# Altium integrated library Linear Technology Power Management LDO Linear Regulators.IntLib: 2339 symbols (part 46 of 131)
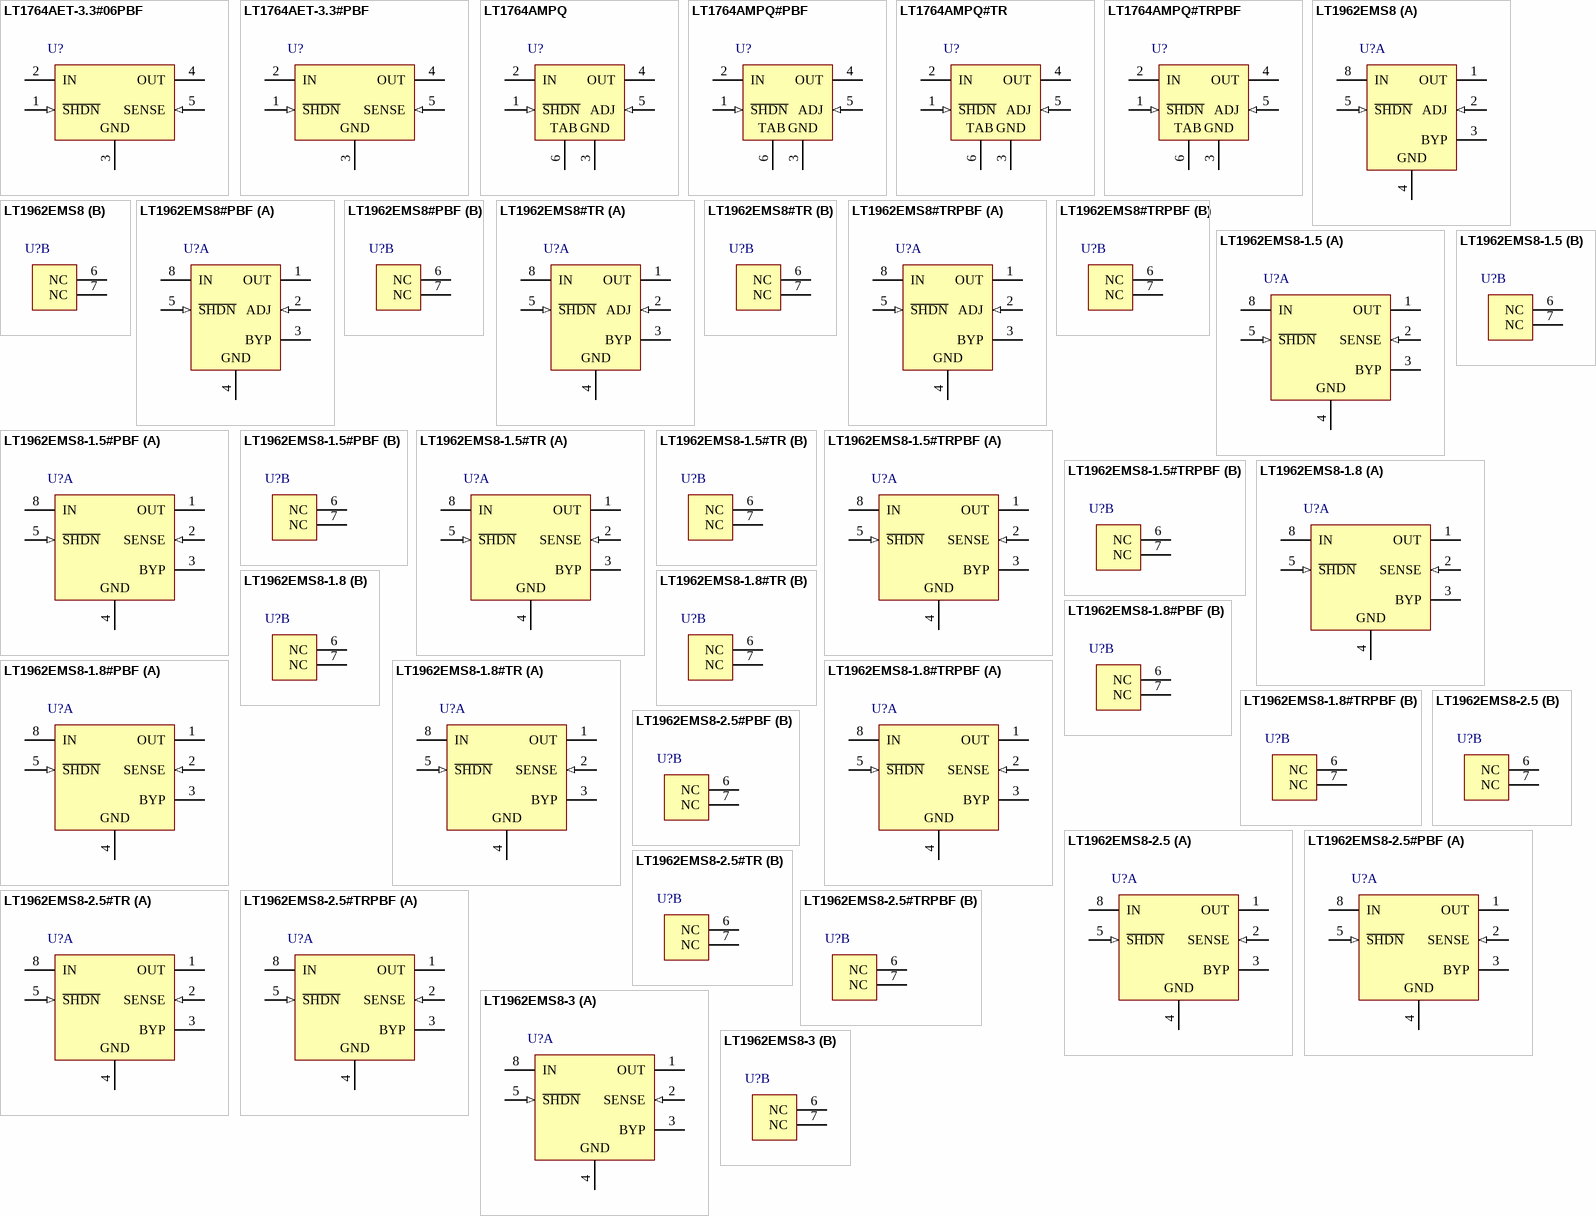
[diagram p114: symbols LT1764AET-3.3#06PBF to LT1962EMS8-3]

## LT1764AMPQ
designator U?
3 A, Fast Transient Response, Low Noise, LDO Regulator, 2.7 to 20 V Vin, Adjustable Vout, 5-pin DPAK (Q-5), -55 to 125 degC; Manufacturer: Linear Technology; PartNumber: LT1764AMPQ; Discrete Pass Element: no; Dropout Voltage(V): 0.34; Iout(mA): 3000; Isupply(mA): 1; Noise(uV): 40; Output Voltage: Adj; PSRR(dB): 63; Shutdown Current(uA): 0.01; Vin Max(V): 20; Vin Min(V): 2.7; Vout Min(V): 1.21; DatasheetVersion: Rev. B; PackageVersion: Rev. F, 09/2011; PackageReference: Q-5; PackageDescription: 5-Pin Plastic DD Pak, Body 10.2235 x 8.89 mm, Pitch 1.702 mm; Number of Outputs: 1; RoHS: FALSE; Vout Max(V): 20; Mounting Technology: Surface Mount; ComponentLink1Description: Manufacturer URL; ComponentLink1URL: http://www.linear.com/; ComponentLink2Description: Datasheet; ComponentLink2URL: http://cds.linear.com/docs/en/datasheet/1764afb.pdf; ComponentLink3Description: Package Specification; ComponentLink3URL: http://cds.linear.com/docs/en/packaging/Q%20DD5%2005-08-1461%20Rev%20F.pdf
footprint LT-Q-5_N (DPAK, 5-Leads, Body 10.22x8.89mm, Pitch 1.702mm, IPC Medium Density)
footprint LT-Q-5_L (DPAK, 5-Leads, Body 10.22x8.89mm, Pitch 1.702mm, IPC High Density)
footprint LT-Q-5_M (DPAK, 5-Leads, Body 10.22x8.89mm, Pitch 1.702mm, IPC Low Density)
pins: 1 ~{SHDN} (in) "Shutdown", 2 IN (power) "Input", 3 GND (power) "Ground", 4 OUT (power) "Output", 5 ADJ (in) "Adjust", 6 TAB (power) "Ground"

## LT1764AMPQ#PBF
designator U?
3 A, Fast Transient Response, Low Noise, LDO Regulator, 2.7 to 20 V Vin, Adjustable Vout, 5-pin DPAK (Q-5), -55 to 125 degC, Pb-Free; Manufacturer: Linear Technology; PartNumber: LT1764AMPQ#PBF; Discrete Pass Element: no; Dropout Voltage(V): 0.34; Iout(mA): 3000; Isupply(mA): 1; Noise(uV): 40; Output Voltage: Adj; PSRR(dB): 63; Shutdown Current(uA): 0.01; Vin Max(V): 20; Vin Min(V): 2.7; Vout Min(V): 1.21; DatasheetVersion: Rev. B; PackageVersion: Rev. F, 09/2011; PackageReference: Q-5; PackageDescription: 5-Pin Plastic DD Pak, Body 10.2235 x 8.89 mm, Pitch 1.702 mm; Supplier 1: Digi-Key; Supplier Part Number 1: LT1764AMPQ#PBF-ND; Supplier 2: Farnell; Supplier Part Number 2: 2295217; Supplier 3: Newark; Supplier Part Number 3: 57M6125; Number of Outputs: 1; RoHS: TRUE; Vout Max(V): 20; Mounting Technology: Surface Mount; ComponentLink1Description: Manufacturer URL; ComponentLink1URL: http://www.linear.com/; ComponentLink2Description: Datasheet; ComponentLink2URL: http://cds.linear.com/docs/en/datasheet/1764afb.pdf; ComponentLink3Description: Package Specification; ComponentLink3URL: http://cds.linear.com/docs/en/packaging/Q%20DD5%2005-08-1461%20Rev%20F.pdf
footprint LT-Q-5_N (DPAK, 5-Leads, Body 10.22x8.89mm, Pitch 1.702mm, IPC Medium Density)
footprint LT-Q-5_L (DPAK, 5-Leads, Body 10.22x8.89mm, Pitch 1.702mm, IPC High Density)
footprint LT-Q-5_M (DPAK, 5-Leads, Body 10.22x8.89mm, Pitch 1.702mm, IPC Low Density)
pins: 1 ~{SHDN} (in) "Shutdown", 2 IN (power) "Input", 3 GND (power) "Ground", 4 OUT (power) "Output", 5 ADJ (in) "Adjust", 6 TAB (power) "Ground"

## LT1764AMPQ#TR
designator U?
3 A, Fast Transient Response, Low Noise, LDO Regulator, 2.7 to 20 V Vin, Adjustable Vout, 5-pin DPAK (Q-5), -55 to 125 degC, Tape and Reel; Manufacturer: Linear Technology; PartNumber: LT1764AMPQ#TR; Discrete Pass Element: no; Dropout Voltage(V): 0.34; Iout(mA): 3000; Isupply(mA): 1; Noise(uV): 40; Output Voltage: Adj; PSRR(dB): 63; Shutdown Current(uA): 0.01; Vin Max(V): 20; Vin Min(V): 2.7; Vout Min(V): 1.21; DatasheetVersion: Rev. B; PackageVersion: Rev. F, 09/2011; PackageReference: Q-5; PackageDescription: 5-Pin Plastic DD Pak, Body 10.2235 x 8.89 mm, Pitch 1.702 mm; Number of Outputs: 1; Packing: Tape and Reel; RoHS: FALSE; Vout Max(V): 20; Mounting Technology: Surface Mount; ComponentLink1Description: Manufacturer URL; ComponentLink1URL: http://www.linear.com/; ComponentLink2Description: Datasheet; ComponentLink2URL: http://cds.linear.com/docs/en/datasheet/1764afb.pdf; ComponentLink3Description: Package Specification; ComponentLink3URL: http://cds.linear.com/docs/en/packaging/Q%20DD5%2005-08-1461%20Rev%20F.pdf
footprint LT-Q-5_N (DPAK, 5-Leads, Body 10.22x8.89mm, Pitch 1.702mm, IPC Medium Density)
footprint LT-Q-5_L (DPAK, 5-Leads, Body 10.22x8.89mm, Pitch 1.702mm, IPC High Density)
footprint LT-Q-5_M (DPAK, 5-Leads, Body 10.22x8.89mm, Pitch 1.702mm, IPC Low Density)
pins: 1 ~{SHDN} (in) "Shutdown", 2 IN (power) "Input", 3 GND (power) "Ground", 4 OUT (power) "Output", 5 ADJ (in) "Adjust", 6 TAB (power) "Ground"

## LT1764AMPQ#TRPBF
designator U?
3 A, Fast Transient Response, Low Noise, LDO Regulator, 2.7 to 20 V Vin, Adjustable Vout, 5-pin DPAK (Q-5), -55 to 125 degC, Pb-Free, Tape and Reel; Manufacturer: Linear Technology; PartNumber: LT1764AMPQ#TRPBF; Discrete Pass Element: no; Dropout Voltage(V): 0.34; Iout(mA): 3000; Isupply(mA): 1; Noise(uV): 40; Output Voltage: Adj; PSRR(dB): 63; Shutdown Current(uA): 0.01; Vin Max(V): 20; Vin Min(V): 2.7; Vout Min(V): 1.21; DatasheetVersion: Rev. B; PackageVersion: Rev. F, 09/2011; PackageReference: Q-5; PackageDescription: 5-Pin Plastic DD Pak, Body 10.2235 x 8.89 mm, Pitch 1.702 mm; Supplier 1: Digi-Key; Supplier Part Number 1: LT1764AMPQ#TRPBF-ND; Number of Outputs: 1; Packing: Tape and Reel; RoHS: TRUE; Vout Max(V): 20; Mounting Technology: Surface Mount; ComponentLink1Description: Manufacturer URL; ComponentLink1URL: http://www.linear.com/; ComponentLink2Description: Datasheet; ComponentLink2URL: http://cds.linear.com/docs/en/datasheet/1764afb.pdf; ComponentLink3Description: Package Specification; ComponentLink3URL: http://cds.linear.com/docs/en/packaging/Q%20DD5%2005-08-1461%20Rev%20F.pdf
footprint LT-Q-5_N (DPAK, 5-Leads, Body 10.22x8.89mm, Pitch 1.702mm, IPC Medium Density)
footprint LT-Q-5_L (DPAK, 5-Leads, Body 10.22x8.89mm, Pitch 1.702mm, IPC High Density)
footprint LT-Q-5_M (DPAK, 5-Leads, Body 10.22x8.89mm, Pitch 1.702mm, IPC Low Density)
pins: 1 ~{SHDN} (in) "Shutdown", 2 IN (power) "Input", 3 GND (power) "Ground", 4 OUT (power) "Output", 5 ADJ (in) "Adjust", 6 TAB (power) "Ground"

## LT1962EMS8
designator U?
300 mA, Low Noise, Micropower LDO Regulator, 1.8 to 20 V Vin, Adjustable Vout, 8-pin SOP (MS8-8), -40 to 125 degC; Manufacturer: Linear Technology; PartNumber: LT1962EMS8; Discrete Pass Element: no; Dropout Voltage(V): 0.27; Iout(mA): 300; Isupply(mA): 0.03; Noise(uV): 20; Number of Outputs: 1; Output Voltage: Adj; PSRR(dB): 65; Shutdown Current(uA): 0.1; Vin Min(V): 1.8; Vout Min(V): 1.22; DatasheetVersion: Rev. A; PackageVersion: Rev. G, 03/2012; PackageReference: MS8-8; PackageDescription: 8-Pin Plastic MSOP, Body 3 x 3 mm, Pitch 0.65 mm; Supplier 1: Digi-Key; Supplier Part Number 1: LT1962EMS8-ND; Supplier 2: Newark; Supplier Part Number 2: 57M7379; RoHS: FALSE; Vin Max(V): 20; Vout Max(V): 20; Mounting Technology: Surface Mount; ComponentLink1Description: Manufacturer URL; ComponentLink1URL: http://www.linear.com/; ComponentLink2Description: Datasheet; ComponentLink2URL: http://cds.linear.com/docs/en/datasheet/1962fas.pdf; ComponentLink3Description: Package Specification; ComponentLink3URL: http://cds.linear.com/docs/en/packaging/05081660_G_MS8.pdf
footprint LT-MS8-8_N (SOP, 8-Leads, Body 3x3mm, Pitch 0.65mm, IPC Medium Density)
footprint LT-MS8-8_L (SOP, 8-Leads, Body 3x3mm, Pitch 0.65mm, IPC High Density)
footprint LT-MS8-8_M (SOP, 8-Leads, Body 3x3mm, Pitch 0.65mm, IPC Low Density)
part A pins: 1 OUT (power) "Output. The output supplies power to the load.", 2 ADJ (in) "Adjust.", 3 BYP "Bypass.", 4 GND (power) "Ground.", 5 ~{SHDN} (in) "Shutdown.", 8 IN (power)
part B pins: 6 NC, 7 NC

## LT1962EMS8#PBF
designator U?
300 mA, Low Noise, Micropower LDO Regulator, 1.8 to 20 V Vin, Adjustable Vout, 8-pin SOP (MS8-8), -40 to 125 degC, Pb-Free; Manufacturer: Linear Technology; PartNumber: LT1962EMS8#PBF; Discrete Pass Element: no; Dropout Voltage(V): 0.27; Iout(mA): 300; Isupply(mA): 0.03; Noise(uV): 20; Number of Outputs: 1; Output Voltage: Adj; PSRR(dB): 65; Shutdown Current(uA): 0.1; Vin Min(V): 1.8; Vout Min(V): 1.22; DatasheetVersion: Rev. A; PackageVersion: Rev. G, 03/2012; PackageReference: MS8-8; PackageDescription: 8-Pin Plastic MSOP, Body 3 x 3 mm, Pitch 0.65 mm; Supplier 1: Digi-Key; Supplier Part Number 1: LT1962EMS8#PBF-ND; Supplier 2: Farnell; Supplier Part Number 2: 1663518; Supplier 3: Newark; Supplier Part Number 3: 57M7404; RoHS: TRUE; Vin Max(V): 20; Vout Max(V): 20; Mounting Technology: Surface Mount; ComponentLink1Description: Manufacturer URL; ComponentLink1URL: http://www.linear.com/; ComponentLink2Description: Datasheet; ComponentLink2URL: http://cds.linear.com/docs/en/datasheet/1962fas.pdf; ComponentLink3Description: Package Specification; ComponentLink3URL: http://cds.linear.com/docs/en/packaging/05081660_G_MS8.pdf
footprint LT-MS8-8_N (SOP, 8-Leads, Body 3x3mm, Pitch 0.65mm, IPC Medium Density)
footprint LT-MS8-8_L (SOP, 8-Leads, Body 3x3mm, Pitch 0.65mm, IPC High Density)
footprint LT-MS8-8_M (SOP, 8-Leads, Body 3x3mm, Pitch 0.65mm, IPC Low Density)
part A pins: 1 OUT (power) "Output. The output supplies power to the load.", 2 ADJ (in) "Adjust.", 3 BYP "Bypass.", 4 GND (power) "Ground.", 5 ~{SHDN} (in) "Shutdown.", 8 IN (power)
part B pins: 6 NC, 7 NC

## LT1962EMS8#TR
designator U?
300 mA, Low Noise, Micropower LDO Regulator, 1.8 to 20 V Vin, Adjustable Vout, 8-pin SOP (MS8-8), -40 to 125 degC, Tape and Reel; Manufacturer: Linear Technology; PartNumber: LT1962EMS8#TR; Discrete Pass Element: no; Dropout Voltage(V): 0.27; Iout(mA): 300; Isupply(mA): 0.03; Noise(uV): 20; Number of Outputs: 1; Output Voltage: Adj; PSRR(dB): 65; Shutdown Current(uA): 0.1; Vin Min(V): 1.8; Vout Min(V): 1.22; DatasheetVersion: Rev. A; PackageVersion: Rev. G, 03/2012; PackageReference: MS8-8; PackageDescription: 8-Pin Plastic MSOP, Body 3 x 3 mm, Pitch 0.65 mm; Supplier 1: Digi-Key; Supplier Part Number 1: LT1962EMS8TR-ND; Supplier 2: Newark; Supplier Part Number 2: 57M7405; Packing: Tape and Reel; RoHS: FALSE; Vin Max(V): 20; Vout Max(V): 20; Mounting Technology: Surface Mount; ComponentLink1Description: Manufacturer URL; ComponentLink1URL: http://www.linear.com/; ComponentLink2Description: Datasheet; ComponentLink2URL: http://cds.linear.com/docs/en/datasheet/1962fas.pdf; ComponentLink3Description: Package Specification; ComponentLink3URL: http://cds.linear.com/docs/en/packaging/05081660_G_MS8.pdf
footprint LT-MS8-8_N (SOP, 8-Leads, Body 3x3mm, Pitch 0.65mm, IPC Medium Density)
footprint LT-MS8-8_L (SOP, 8-Leads, Body 3x3mm, Pitch 0.65mm, IPC High Density)
footprint LT-MS8-8_M (SOP, 8-Leads, Body 3x3mm, Pitch 0.65mm, IPC Low Density)
part A pins: 1 OUT (power) "Output. The output supplies power to the load.", 2 ADJ (in) "Adjust.", 3 BYP "Bypass.", 4 GND (power) "Ground.", 5 ~{SHDN} (in) "Shutdown.", 8 IN (power)
part B pins: 6 NC, 7 NC

## LT1962EMS8#TRPBF
designator U?
300 mA, Low Noise, Micropower LDO Regulator, 1.8 to 20 V Vin, Adjustable Vout, 8-pin SOP (MS8-8), -40 to 125 degC, Pb-Free, Tape and Reel; Manufacturer: Linear Technology; PartNumber: LT1962EMS8#TRPBF; Discrete Pass Element: no; Dropout Voltage(V): 0.27; Iout(mA): 300; Isupply(mA): 0.03; Noise(uV): 20; Number of Outputs: 1; Output Voltage: Adj; PSRR(dB): 65; Shutdown Current(uA): 0.1; Vin Min(V): 1.8; Vout Min(V): 1.22; DatasheetVersion: Rev. A; PackageVersion: Rev. G, 03/2012; PackageReference: MS8-8; PackageDescription: 8-Pin Plastic MSOP, Body 3 x 3 mm, Pitch 0.65 mm; Supplier 1: Digi-Key; Supplier Part Number 1: LT1962EMS8#TRPBFTR-ND; Supplier 2: Digi-Key; Supplier Part Number 2: LT1962EMS8#TRPBFCT-ND; Supplier 3: Digi-Key; Supplier Part Number 3: LT1962EMS8#TRPBFDKR-ND; Supplier 4: Newark; Supplier Part Number 4: 57M7406; Packing: Tape and Reel; RoHS: TRUE; Vin Max(V): 20; Vout Max(V): 20; Mounting Technology: Surface Mount; ComponentLink1Description: Manufacturer URL; ComponentLink1URL: http://www.linear.com/; ComponentLink2Description: Datasheet; ComponentLink2URL: http://cds.linear.com/docs/en/datasheet/1962fas.pdf; ComponentLink3Description: Package Specification; ComponentLink3URL: http://cds.linear.com/docs/en/packaging/05081660_G_MS8.pdf
footprint LT-MS8-8_N (SOP, 8-Leads, Body 3x3mm, Pitch 0.65mm, IPC Medium Density)
footprint LT-MS8-8_L (SOP, 8-Leads, Body 3x3mm, Pitch 0.65mm, IPC High Density)
footprint LT-MS8-8_M (SOP, 8-Leads, Body 3x3mm, Pitch 0.65mm, IPC Low Density)
part A pins: 1 OUT (power) "Output. The output supplies power to the load.", 2 ADJ (in) "Adjust.", 3 BYP "Bypass.", 4 GND (power) "Ground.", 5 ~{SHDN} (in) "Shutdown.", 8 IN (power)
part B pins: 6 NC, 7 NC

## LT1962EMS8-1.5
designator U?
300 mA, Low Noise, Micropower LDO Regulator, 1.8 to 20 V Vin, 1.5 V Vout, 8-pin SOP (MS8-8), -40 to 125 degC; Manufacturer: Linear Technology; PartNumber: LT1962EMS8-1.5; Discrete Pass Element: no; Dropout Voltage(V): 0.27; Iout(mA): 300; Isupply(mA): 0.03; Noise(uV): 20; Number of Outputs: 1; Output Voltage: 1.5 V; PSRR(dB): 65; Shutdown Current(uA): 0.1; Vin Min(V): 1.8; DatasheetVersion: Rev. A; PackageVersion: Rev. G, 03/2012; PackageReference: MS8-8; PackageDescription: 8-Pin Plastic MSOP, Body 3 x 3 mm, Pitch 0.65 mm; Supplier 1: Digi-Key; Supplier Part Number 1: LT1962EMS8-1.5-ND; Supplier 2: Newark; Supplier Part Number 2: 57M7380; RoHS: FALSE; Vin Max(V): 20; Mounting Technology: Surface Mount; ComponentLink1Description: Manufacturer URL; ComponentLink1URL: http://www.linear.com/; ComponentLink2Description: Datasheet; ComponentLink2URL: http://cds.linear.com/docs/en/datasheet/1962fas.pdf; ComponentLink3Description: Package Specification; ComponentLink3URL: http://cds.linear.com/docs/en/packaging/05081660_G_MS8.pdf
footprint LT-MS8-8_N (SOP, 8-Leads, Body 3x3mm, Pitch 0.65mm, IPC Medium Density)
footprint LT-MS8-8_L (SOP, 8-Leads, Body 3x3mm, Pitch 0.65mm, IPC High Density)
footprint LT-MS8-8_M (SOP, 8-Leads, Body 3x3mm, Pitch 0.65mm, IPC Low Density)
part A pins: 1 OUT (power) "Output. The output supplies power to the load.", 2 SENSE (in) "Sense. For fixed voltage versions, the SENSE pin is the input to the error amplifier. Optimum regulation will be obtained at the point where the SENSE pin is connected to the OUT pin of the regulator. In critical (See Datasheet)", 3 BYP "Bypass. The BYP pin is used to bypass the reference of the LT1762 regulators to achieve low noise performance from the regulator. The BYP pin is clamped internally to +/-0.6V (one VBE). A small capacitor from the output to (See Datasheet)", 4 GND (power) "Ground.", 5 ~{SHDN} (in) "Shutdown. The S\H\D\N\ pin is used to put the regulators into a low power shutdown state. The output will be off when the S\H\D\N\ pin is pulled low. The S\H\D\N\ pin can be driven either by 5V logic or opencollector logic (See Datasheet)", 8 IN (power) "Input. Power is supplied to the device through the IN pin. A bypass capacitor is required on this pin if the device is more than six inches away from the main input filter capacitor. In general, the output impedance of a (See Datasheet)"
part B pins: 6 NC, 7 NC

## LT1962EMS8-1.5#PBF
designator U?
300 mA, Low Noise, Micropower LDO Regulator, 1.8 to 20 V Vin, 1.5 V Vout, 8-pin SOP (MS8-8), -40 to 125 degC, Pb-Free; Manufacturer: Linear Technology; PartNumber: LT1962EMS8-1.5#PBF; Discrete Pass Element: no; Dropout Voltage(V): 0.27; Iout(mA): 300; Isupply(mA): 0.03; Noise(uV): 20; Number of Outputs: 1; Output Voltage: 1.5 V; PSRR(dB): 65; Shutdown Current(uA): 0.1; Vin Min(V): 1.8; DatasheetVersion: Rev. A; PackageVersion: Rev. G, 03/2012; PackageReference: MS8-8; PackageDescription: 8-Pin Plastic MSOP, Body 3 x 3 mm, Pitch 0.65 mm; Supplier 1: Digi-Key; Supplier Part Number 1: LT1962EMS8-1.5#PBF-ND; Supplier 2: Farnell; Supplier Part Number 2: 2254858; Supplier 3: Newark; Supplier Part Number 3: 57M7381; RoHS: TRUE; Vin Max(V): 20; Mounting Technology: Surface Mount; ComponentLink1Description: Manufacturer URL; ComponentLink1URL: http://www.linear.com/; ComponentLink2Description: Datasheet; ComponentLink2URL: http://cds.linear.com/docs/en/datasheet/1962fas.pdf; ComponentLink3Description: Package Specification; ComponentLink3URL: http://cds.linear.com/docs/en/packaging/05081660_G_MS8.pdf
footprint LT-MS8-8_N (SOP, 8-Leads, Body 3x3mm, Pitch 0.65mm, IPC Medium Density)
footprint LT-MS8-8_L (SOP, 8-Leads, Body 3x3mm, Pitch 0.65mm, IPC High Density)
footprint LT-MS8-8_M (SOP, 8-Leads, Body 3x3mm, Pitch 0.65mm, IPC Low Density)
part A pins: 1 OUT (power) "Output. The output supplies power to the load.", 2 SENSE (in) "Sense. For fixed voltage versions, the SENSE pin is the input to the error amplifier. Optimum regulation will be obtained at the point where the SENSE pin is connected to the OUT pin of the regulator. In critical (See Datasheet)", 3 BYP "Bypass. The BYP pin is used to bypass the reference of the LT1762 regulators to achieve low noise performance from the regulator. The BYP pin is clamped internally to +/-0.6V (one VBE). A small capacitor from the output to (See Datasheet)", 4 GND (power) "Ground.", 5 ~{SHDN} (in) "Shutdown. The S\H\D\N\ pin is used to put the regulators into a low power shutdown state. The output will be off when the S\H\D\N\ pin is pulled low. The S\H\D\N\ pin can be driven either by 5V logic or opencollector logic (See Datasheet)", 8 IN (power) "Input. Power is supplied to the device through the IN pin. A bypass capacitor is required on this pin if the device is more than six inches away from the main input filter capacitor. In general, the output impedance of a (See Datasheet)"
part B pins: 6 NC, 7 NC

## LT1962EMS8-1.5#TR
designator U?
300 mA, Low Noise, Micropower LDO Regulator, 1.8 to 20 V Vin, 1.5 V Vout, 8-pin SOP (MS8-8), -40 to 125 degC, Tape and Reel; Manufacturer: Linear Technology; PartNumber: LT1962EMS8-1.5#TR; Discrete Pass Element: no; Dropout Voltage(V): 0.27; Iout(mA): 300; Isupply(mA): 0.03; Noise(uV): 20; Number of Outputs: 1; Output Voltage: 1.5 V; PSRR(dB): 65; Shutdown Current(uA): 0.1; Vin Min(V): 1.8; DatasheetVersion: Rev. A; PackageVersion: Rev. G, 03/2012; PackageReference: MS8-8; PackageDescription: 8-Pin Plastic MSOP, Body 3 x 3 mm, Pitch 0.65 mm; Supplier 1: Digi-Key; Supplier Part Number 1: LT1962EMS8-1.5#TR-ND; Supplier 2: Newark; Supplier Part Number 2: 57M7382; Packing: Tape and Reel; RoHS: FALSE; Vin Max(V): 20; Mounting Technology: Surface Mount; ComponentLink1Description: Manufacturer URL; ComponentLink1URL: http://www.linear.com/; ComponentLink2Description: Datasheet; ComponentLink2URL: http://cds.linear.com/docs/en/datasheet/1962fas.pdf; ComponentLink3Description: Package Specification; ComponentLink3URL: http://cds.linear.com/docs/en/packaging/05081660_G_MS8.pdf
footprint LT-MS8-8_N (SOP, 8-Leads, Body 3x3mm, Pitch 0.65mm, IPC Medium Density)
footprint LT-MS8-8_L (SOP, 8-Leads, Body 3x3mm, Pitch 0.65mm, IPC High Density)
footprint LT-MS8-8_M (SOP, 8-Leads, Body 3x3mm, Pitch 0.65mm, IPC Low Density)
part A pins: 1 OUT (power) "Output. The output supplies power to the load.", 2 SENSE (in) "Sense. For fixed voltage versions, the SENSE pin is the input to the error amplifier. Optimum regulation will be obtained at the point where the SENSE pin is connected to the OUT pin of the regulator. In critical (See Datasheet)", 3 BYP "Bypass. The BYP pin is used to bypass the reference of the LT1762 regulators to achieve low noise performance from the regulator. The BYP pin is clamped internally to +/-0.6V (one VBE). A small capacitor from the output to (See Datasheet)", 4 GND (power) "Ground.", 5 ~{SHDN} (in) "Shutdown. The S\H\D\N\ pin is used to put the regulators into a low power shutdown state. The output will be off when the S\H\D\N\ pin is pulled low. The S\H\D\N\ pin can be driven either by 5V logic or opencollector logic (See Datasheet)", 8 IN (power) "Input. Power is supplied to the device through the IN pin. A bypass capacitor is required on this pin if the device is more than six inches away from the main input filter capacitor. In general, the output impedance of a (See Datasheet)"
part B pins: 6 NC, 7 NC

## LT1962EMS8-1.5#TRPBF
designator U?
300 mA, Low Noise, Micropower LDO Regulator, 1.8 to 20 V Vin, 1.5 V Vout, 8-pin SOP (MS8-8), -40 to 125 degC, Pb-Free, Tape and Reel; Manufacturer: Linear Technology; PartNumber: LT1962EMS8-1.5#TRPBF; Discrete Pass Element: no; Dropout Voltage(V): 0.27; Iout(mA): 300; Isupply(mA): 0.03; Noise(uV): 20; Number of Outputs: 1; Output Voltage: 1.5 V; PSRR(dB): 65; Shutdown Current(uA): 0.1; Vin Min(V): 1.8; DatasheetVersion: Rev. A; PackageVersion: Rev. G, 03/2012; PackageReference: MS8-8; PackageDescription: 8-Pin Plastic MSOP, Body 3 x 3 mm, Pitch 0.65 mm; Supplier 1: Digi-Key; Supplier Part Number 1: LT1962EMS8-1.5#TRPBF-ND; Supplier 2: Newark; Supplier Part Number 2: 57M7383; Packing: Tape and Reel; RoHS: TRUE; Vin Max(V): 20; Mounting Technology: Surface Mount; ComponentLink1Description: Manufacturer URL; ComponentLink1URL: http://www.linear.com/; ComponentLink2Description: Datasheet; ComponentLink2URL: http://cds.linear.com/docs/en/datasheet/1962fas.pdf; ComponentLink3Description: Package Specification; ComponentLink3URL: http://cds.linear.com/docs/en/packaging/05081660_G_MS8.pdf
footprint LT-MS8-8_N (SOP, 8-Leads, Body 3x3mm, Pitch 0.65mm, IPC Medium Density)
footprint LT-MS8-8_L (SOP, 8-Leads, Body 3x3mm, Pitch 0.65mm, IPC High Density)
footprint LT-MS8-8_M (SOP, 8-Leads, Body 3x3mm, Pitch 0.65mm, IPC Low Density)
part A pins: 1 OUT (power) "Output. The output supplies power to the load.", 2 SENSE (in) "Sense. For fixed voltage versions, the SENSE pin is the input to the error amplifier. Optimum regulation will be obtained at the point where the SENSE pin is connected to the OUT pin of the regulator. In critical (See Datasheet)", 3 BYP "Bypass. The BYP pin is used to bypass the reference of the LT1762 regulators to achieve low noise performance from the regulator. The BYP pin is clamped internally to +/-0.6V (one VBE). A small capacitor from the output to (See Datasheet)", 4 GND (power) "Ground.", 5 ~{SHDN} (in) "Shutdown. The S\H\D\N\ pin is used to put the regulators into a low power shutdown state. The output will be off when the S\H\D\N\ pin is pulled low. The S\H\D\N\ pin can be driven either by 5V logic or opencollector logic (See Datasheet)", 8 IN (power) "Input. Power is supplied to the device through the IN pin. A bypass capacitor is required on this pin if the device is more than six inches away from the main input filter capacitor. In general, the output impedance of a (See Datasheet)"
part B pins: 6 NC, 7 NC

## LT1962EMS8-1.8
designator U?
300 mA, Low Noise, Micropower LDO Regulator, 1.8 to 20 V Vin, 1.8 V Vout, 8-pin SOP (MS8-8), -40 to 125 degC; Manufacturer: Linear Technology; PartNumber: LT1962EMS8-1.8; Discrete Pass Element: no; Dropout Voltage(V): 0.27; Iout(mA): 300; Isupply(mA): 0.03; Noise(uV): 20; Number of Outputs: 1; Output Voltage: 1.8 V; PSRR(dB): 65; Shutdown Current(uA): 0.1; Vin Min(V): 1.8; DatasheetVersion: Rev. A; PackageVersion: Rev. G, 03/2012; PackageReference: MS8-8; PackageDescription: 8-Pin Plastic MSOP, Body 3 x 3 mm, Pitch 0.65 mm; Supplier 1: Digi-Key; Supplier Part Number 1: LT1962EMS8-1.8-ND; Supplier 2: Newark; Supplier Part Number 2: 57M7384; RoHS: FALSE; Vin Max(V): 20; Mounting Technology: Surface Mount; ComponentLink1Description: Manufacturer URL; ComponentLink1URL: http://www.linear.com/; ComponentLink2Description: Datasheet; ComponentLink2URL: http://cds.linear.com/docs/en/datasheet/1962fas.pdf; ComponentLink3Description: Package Specification; ComponentLink3URL: http://cds.linear.com/docs/en/packaging/05081660_G_MS8.pdf
footprint LT-MS8-8_N (SOP, 8-Leads, Body 3x3mm, Pitch 0.65mm, IPC Medium Density)
footprint LT-MS8-8_L (SOP, 8-Leads, Body 3x3mm, Pitch 0.65mm, IPC High Density)
footprint LT-MS8-8_M (SOP, 8-Leads, Body 3x3mm, Pitch 0.65mm, IPC Low Density)
part A pins: 1 OUT (power) "Output. The output supplies power to the load.", 2 SENSE (in) "Sense. For fixed voltage versions, the SENSE pin is the input to the error amplifier. Optimum regulation will be obtained at the point where the SENSE pin is connected to the OUT pin of the regulator. In critical (See Datasheet)", 3 BYP "Bypass. The BYP pin is used to bypass the reference of the LT1762 regulators to achieve low noise performance from the regulator. The BYP pin is clamped internally to +/-0.6V (one VBE). A small capacitor from the output to (See Datasheet)", 4 GND (power) "Ground.", 5 ~{SHDN} (in) "Shutdown. The S\H\D\N\ pin is used to put the regulators into a low power shutdown state. The output will be off when the S\H\D\N\ pin is pulled low. The S\H\D\N\ pin can be driven either by 5V logic or opencollector logic (See Datasheet)", 8 IN (power) "Input. Power is supplied to the device through the IN pin. A bypass capacitor is required on this pin if the device is more than six inches away from the main input filter capacitor. In general, the output impedance of a (See Datasheet)"
part B pins: 6 NC, 7 NC

## LT1962EMS8-1.8#PBF
designator U?
300 mA, Low Noise, Micropower LDO Regulator, 1.8 to 20 V Vin, 1.8 V Vout, 8-pin SOP (MS8-8), -40 to 125 degC, Pb-Free; Manufacturer: Linear Technology; PartNumber: LT1962EMS8-1.8#PBF; Discrete Pass Element: no; Dropout Voltage(V): 0.27; Iout(mA): 300; Isupply(mA): 0.03; Noise(uV): 20; Number of Outputs: 1; Output Voltage: 1.8 V; PSRR(dB): 65; Shutdown Current(uA): 0.1; Vin Min(V): 1.8; DatasheetVersion: Rev. A; PackageVersion: Rev. G, 03/2012; PackageReference: MS8-8; PackageDescription: 8-Pin Plastic MSOP, Body 3 x 3 mm, Pitch 0.65 mm; Supplier 1: Digi-Key; Supplier Part Number 1: LT1962EMS8-1.8#PBF-ND; Supplier 2: Farnell; Supplier Part Number 2: 2102634; Supplier 3: Newark; Supplier Part Number 3: 57M7385; RoHS: TRUE; Vin Max(V): 20; Mounting Technology: Surface Mount; ComponentLink1Description: Manufacturer URL; ComponentLink1URL: http://www.linear.com/; ComponentLink2Description: Datasheet; ComponentLink2URL: http://cds.linear.com/docs/en/datasheet/1962fas.pdf; ComponentLink3Description: Package Specification; ComponentLink3URL: http://cds.linear.com/docs/en/packaging/05081660_G_MS8.pdf
footprint LT-MS8-8_N (SOP, 8-Leads, Body 3x3mm, Pitch 0.65mm, IPC Medium Density)
footprint LT-MS8-8_L (SOP, 8-Leads, Body 3x3mm, Pitch 0.65mm, IPC High Density)
footprint LT-MS8-8_M (SOP, 8-Leads, Body 3x3mm, Pitch 0.65mm, IPC Low Density)
part A pins: 1 OUT (power) "Output. The output supplies power to the load.", 2 SENSE (in) "Sense. For fixed voltage versions, the SENSE pin is the input to the error amplifier. Optimum regulation will be obtained at the point where the SENSE pin is connected to the OUT pin of the regulator. In critical (See Datasheet)", 3 BYP "Bypass. The BYP pin is used to bypass the reference of the LT1762 regulators to achieve low noise performance from the regulator. The BYP pin is clamped internally to +/-0.6V (one VBE). A small capacitor from the output to (See Datasheet)", 4 GND (power) "Ground.", 5 ~{SHDN} (in) "Shutdown. The S\H\D\N\ pin is used to put the regulators into a low power shutdown state. The output will be off when the S\H\D\N\ pin is pulled low. The S\H\D\N\ pin can be driven either by 5V logic or opencollector logic (See Datasheet)", 8 IN (power) "Input. Power is supplied to the device through the IN pin. A bypass capacitor is required on this pin if the device is more than six inches away from the main input filter capacitor. In general, the output impedance of a (See Datasheet)"
part B pins: 6 NC, 7 NC

## LT1962EMS8-1.8#TR
designator U?
300 mA, Low Noise, Micropower LDO Regulator, 1.8 to 20 V Vin, 1.8 V Vout, 8-pin SOP (MS8-8), -40 to 125 degC, Tape and Reel; Manufacturer: Linear Technology; PartNumber: LT1962EMS8-1.8#TR; Discrete Pass Element: no; Dropout Voltage(V): 0.27; Iout(mA): 300; Isupply(mA): 0.03; Noise(uV): 20; Number of Outputs: 1; Output Voltage: 1.8 V; PSRR(dB): 65; Shutdown Current(uA): 0.1; Vin Min(V): 1.8; DatasheetVersion: Rev. A; PackageVersion: Rev. G, 03/2012; PackageReference: MS8-8; PackageDescription: 8-Pin Plastic MSOP, Body 3 x 3 mm, Pitch 0.65 mm; Supplier 1: Digi-Key; Supplier Part Number 1: LT1962EMS8-1.8#TR-ND; Supplier 2: Newark; Supplier Part Number 2: 57M7386; Packing: Tape and Reel; RoHS: FALSE; Vin Max(V): 20; Mounting Technology: Surface Mount; ComponentLink1Description: Manufacturer URL; ComponentLink1URL: http://www.linear.com/; ComponentLink2Description: Datasheet; ComponentLink2URL: http://cds.linear.com/docs/en/datasheet/1962fas.pdf; ComponentLink3Description: Package Specification; ComponentLink3URL: http://cds.linear.com/docs/en/packaging/05081660_G_MS8.pdf
footprint LT-MS8-8_N (SOP, 8-Leads, Body 3x3mm, Pitch 0.65mm, IPC Medium Density)
footprint LT-MS8-8_L (SOP, 8-Leads, Body 3x3mm, Pitch 0.65mm, IPC High Density)
footprint LT-MS8-8_M (SOP, 8-Leads, Body 3x3mm, Pitch 0.65mm, IPC Low Density)
part A pins: 1 OUT (power) "Output. The output supplies power to the load.", 2 SENSE (in) "Sense. For fixed voltage versions, the SENSE pin is the input to the error amplifier. Optimum regulation will be obtained at the point where the SENSE pin is connected to the OUT pin of the regulator. In critical (See Datasheet)", 3 BYP "Bypass. The BYP pin is used to bypass the reference of the LT1762 regulators to achieve low noise performance from the regulator. The BYP pin is clamped internally to +/-0.6V (one VBE). A small capacitor from the output to (See Datasheet)", 4 GND (power) "Ground.", 5 ~{SHDN} (in) "Shutdown. The S\H\D\N\ pin is used to put the regulators into a low power shutdown state. The output will be off when the S\H\D\N\ pin is pulled low. The S\H\D\N\ pin can be driven either by 5V logic or opencollector logic (See Datasheet)", 8 IN (power) "Input. Power is supplied to the device through the IN pin. A bypass capacitor is required on this pin if the device is more than six inches away from the main input filter capacitor. In general, the output impedance of a (See Datasheet)"
part B pins: 6 NC, 7 NC

## LT1962EMS8-1.8#TRPBF
designator U?
300 mA, Low Noise, Micropower LDO Regulator, 1.8 to 20 V Vin, 1.8 V Vout, 8-pin SOP (MS8-8), -40 to 125 degC, Pb-Free, Tape and Reel; Manufacturer: Linear Technology; PartNumber: LT1962EMS8-1.8#TRPBF; Discrete Pass Element: no; Dropout Voltage(V): 0.27; Iout(mA): 300; Isupply(mA): 0.03; Noise(uV): 20; Number of Outputs: 1; Output Voltage: 1.8 V; PSRR(dB): 65; Shutdown Current(uA): 0.1; Vin Min(V): 1.8; DatasheetVersion: Rev. A; PackageVersion: Rev. G, 03/2012; PackageReference: MS8-8; PackageDescription: 8-Pin Plastic MSOP, Body 3 x 3 mm, Pitch 0.65 mm; Supplier 1: Digi-Key; Supplier Part Number 1: LT1962EMS8-1.8#TRPBF-ND; Supplier 2: Newark; Supplier Part Number 2: 57M7387; Packing: Tape and Reel; RoHS: TRUE; Vin Max(V): 20; Mounting Technology: Surface Mount; ComponentLink1Description: Manufacturer URL; ComponentLink1URL: http://www.linear.com/; ComponentLink2Description: Datasheet; ComponentLink2URL: http://cds.linear.com/docs/en/datasheet/1962fas.pdf; ComponentLink3Description: Package Specification; ComponentLink3URL: http://cds.linear.com/docs/en/packaging/05081660_G_MS8.pdf
footprint LT-MS8-8_N (SOP, 8-Leads, Body 3x3mm, Pitch 0.65mm, IPC Medium Density)
footprint LT-MS8-8_L (SOP, 8-Leads, Body 3x3mm, Pitch 0.65mm, IPC High Density)
footprint LT-MS8-8_M (SOP, 8-Leads, Body 3x3mm, Pitch 0.65mm, IPC Low Density)
part A pins: 1 OUT (power) "Output. The output supplies power to the load.", 2 SENSE (in) "Sense. For fixed voltage versions, the SENSE pin is the input to the error amplifier. Optimum regulation will be obtained at the point where the SENSE pin is connected to the OUT pin of the regulator. In critical (See Datasheet)", 3 BYP "Bypass. The BYP pin is used to bypass the reference of the LT1762 regulators to achieve low noise performance from the regulator. The BYP pin is clamped internally to +/-0.6V (one VBE). A small capacitor from the output to (See Datasheet)", 4 GND (power) "Ground.", 5 ~{SHDN} (in) "Shutdown. The S\H\D\N\ pin is used to put the regulators into a low power shutdown state. The output will be off when the S\H\D\N\ pin is pulled low. The S\H\D\N\ pin can be driven either by 5V logic or opencollector logic (See Datasheet)", 8 IN (power) "Input. Power is supplied to the device through the IN pin. A bypass capacitor is required on this pin if the device is more than six inches away from the main input filter capacitor. In general, the output impedance of a (See Datasheet)"
part B pins: 6 NC, 7 NC

## LT1962EMS8-2.5
designator U?
300 mA, Low Noise, Micropower LDO Regulator, 1.8 to 20 V Vin, 2.5 V Vout, 8-pin SOP (MS8-8), -40 to 125 degC; Manufacturer: Linear Technology; PartNumber: LT1962EMS8-2.5; Discrete Pass Element: no; Dropout Voltage(V): 0.27; Iout(mA): 300; Isupply(mA): 0.03; Noise(uV): 20; Number of Outputs: 1; Output Voltage: 2.5 V; PSRR(dB): 65; Shutdown Current(uA): 0.1; Vin Min(V): 1.8; DatasheetVersion: Rev. A; PackageVersion: Rev. G, 03/2012; PackageReference: MS8-8; PackageDescription: 8-Pin Plastic MSOP, Body 3 x 3 mm, Pitch 0.65 mm; Supplier 1: Digi-Key; Supplier Part Number 1: LT1962EMS8-2.5-ND; Supplier 2: Newark; Supplier Part Number 2: 57M7388; RoHS: FALSE; Vin Max(V): 20; Mounting Technology: Surface Mount; ComponentLink1Description: Manufacturer URL; ComponentLink1URL: http://www.linear.com/; ComponentLink2Description: Datasheet; ComponentLink2URL: http://cds.linear.com/docs/en/datasheet/1962fas.pdf; ComponentLink3Description: Package Specification; ComponentLink3URL: http://cds.linear.com/docs/en/packaging/05081660_G_MS8.pdf
footprint LT-MS8-8_N (SOP, 8-Leads, Body 3x3mm, Pitch 0.65mm, IPC Medium Density)
footprint LT-MS8-8_L (SOP, 8-Leads, Body 3x3mm, Pitch 0.65mm, IPC High Density)
footprint LT-MS8-8_M (SOP, 8-Leads, Body 3x3mm, Pitch 0.65mm, IPC Low Density)
part A pins: 1 OUT (power) "Output. The output supplies power to the load.", 2 SENSE (in) "Sense. For fixed voltage versions, the SENSE pin is the input to the error amplifier. Optimum regulation will be obtained at the point where the SENSE pin is connected to the OUT pin of the regulator. In critical (See Datasheet)", 3 BYP "Bypass. The BYP pin is used to bypass the reference of the LT1762 regulators to achieve low noise performance from the regulator. The BYP pin is clamped internally to +/-0.6V (one VBE). A small capacitor from the output to (See Datasheet)", 4 GND (power) "Ground.", 5 ~{SHDN} (in) "Shutdown. The S\H\D\N\ pin is used to put the regulators into a low power shutdown state. The output will be off when the S\H\D\N\ pin is pulled low. The S\H\D\N\ pin can be driven either by 5V logic or opencollector logic (See Datasheet)", 8 IN (power) "Input. Power is supplied to the device through the IN pin. A bypass capacitor is required on this pin if the device is more than six inches away from the main input filter capacitor. In general, the output impedance of a (See Datasheet)"
part B pins: 6 NC, 7 NC

## LT1962EMS8-2.5#PBF
designator U?
300 mA, Low Noise, Micropower LDO Regulator, 1.8 to 20 V Vin, 2.5 V Vout, 8-pin SOP (MS8-8), -40 to 125 degC, Pb-Free; Manufacturer: Linear Technology; PartNumber: LT1962EMS8-2.5#PBF; Discrete Pass Element: no; Dropout Voltage(V): 0.27; Iout(mA): 300; Isupply(mA): 0.03; Noise(uV): 20; Number of Outputs: 1; Output Voltage: 2.5 V; PSRR(dB): 65; Shutdown Current(uA): 0.1; Vin Min(V): 1.8; DatasheetVersion: Rev. A; PackageVersion: Rev. G, 03/2012; PackageReference: MS8-8; PackageDescription: 8-Pin Plastic MSOP, Body 3 x 3 mm, Pitch 0.65 mm; Supplier 1: Digi-Key; Supplier Part Number 1: LT1962EMS8-2.5#PBF-ND; Supplier 2: Farnell; Supplier Part Number 2: 1663519; Supplier 3: Newark; Supplier Part Number 3: 57M7389; RoHS: TRUE; Vin Max(V): 20; Mounting Technology: Surface Mount; ComponentLink1Description: Manufacturer URL; ComponentLink1URL: http://www.linear.com/; ComponentLink2Description: Datasheet; ComponentLink2URL: http://cds.linear.com/docs/en/datasheet/1962fas.pdf; ComponentLink3Description: Package Specification; ComponentLink3URL: http://cds.linear.com/docs/en/packaging/05081660_G_MS8.pdf
footprint LT-MS8-8_N (SOP, 8-Leads, Body 3x3mm, Pitch 0.65mm, IPC Medium Density)
footprint LT-MS8-8_L (SOP, 8-Leads, Body 3x3mm, Pitch 0.65mm, IPC High Density)
footprint LT-MS8-8_M (SOP, 8-Leads, Body 3x3mm, Pitch 0.65mm, IPC Low Density)
part A pins: 1 OUT (power) "Output. The output supplies power to the load.", 2 SENSE (in) "Sense. For fixed voltage versions, the SENSE pin is the input to the error amplifier. Optimum regulation will be obtained at the point where the SENSE pin is connected to the OUT pin of the regulator. In critical (See Datasheet)", 3 BYP "Bypass. The BYP pin is used to bypass the reference of the LT1762 regulators to achieve low noise performance from the regulator. The BYP pin is clamped internally to +/-0.6V (one VBE). A small capacitor from the output to (See Datasheet)", 4 GND (power) "Ground.", 5 ~{SHDN} (in) "Shutdown. The S\H\D\N\ pin is used to put the regulators into a low power shutdown state. The output will be off when the S\H\D\N\ pin is pulled low. The S\H\D\N\ pin can be driven either by 5V logic or opencollector logic (See Datasheet)", 8 IN (power) "Input. Power is supplied to the device through the IN pin. A bypass capacitor is required on this pin if the device is more than six inches away from the main input filter capacitor. In general, the output impedance of a (See Datasheet)"
part B pins: 6 NC, 7 NC

## LT1962EMS8-2.5#TR
designator U?
300 mA, Low Noise, Micropower LDO Regulator, 1.8 to 20 V Vin, 2.5 V Vout, 8-pin SOP (MS8-8), -40 to 125 degC, Tape and Reel; Manufacturer: Linear Technology; PartNumber: LT1962EMS8-2.5#TR; Discrete Pass Element: no; Dropout Voltage(V): 0.27; Iout(mA): 300; Isupply(mA): 0.03; Noise(uV): 20; Number of Outputs: 1; Output Voltage: 2.5 V; PSRR(dB): 65; Shutdown Current(uA): 0.1; Vin Min(V): 1.8; DatasheetVersion: Rev. A; PackageVersion: Rev. G, 03/2012; PackageReference: MS8-8; PackageDescription: 8-Pin Plastic MSOP, Body 3 x 3 mm, Pitch 0.65 mm; Supplier 1: Digi-Key; Supplier Part Number 1: LT1962EMS8-2.5TR-ND; Supplier 2: Newark; Supplier Part Number 2: 57M7390; Packing: Tape and Reel; RoHS: FALSE; Vin Max(V): 20; Mounting Technology: Surface Mount; ComponentLink1Description: Manufacturer URL; ComponentLink1URL: http://www.linear.com/; ComponentLink2Description: Datasheet; ComponentLink2URL: http://cds.linear.com/docs/en/datasheet/1962fas.pdf; ComponentLink3Description: Package Specification; ComponentLink3URL: http://cds.linear.com/docs/en/packaging/05081660_G_MS8.pdf
footprint LT-MS8-8_N (SOP, 8-Leads, Body 3x3mm, Pitch 0.65mm, IPC Medium Density)
footprint LT-MS8-8_L (SOP, 8-Leads, Body 3x3mm, Pitch 0.65mm, IPC High Density)
footprint LT-MS8-8_M (SOP, 8-Leads, Body 3x3mm, Pitch 0.65mm, IPC Low Density)
part A pins: 1 OUT (power) "Output. The output supplies power to the load.", 2 SENSE (in) "Sense. For fixed voltage versions, the SENSE pin is the input to the error amplifier. Optimum regulation will be obtained at the point where the SENSE pin is connected to the OUT pin of the regulator. In critical (See Datasheet)", 3 BYP "Bypass. The BYP pin is used to bypass the reference of the LT1762 regulators to achieve low noise performance from the regulator. The BYP pin is clamped internally to +/-0.6V (one VBE). A small capacitor from the output to (See Datasheet)", 4 GND (power) "Ground.", 5 ~{SHDN} (in) "Shutdown. The S\H\D\N\ pin is used to put the regulators into a low power shutdown state. The output will be off when the S\H\D\N\ pin is pulled low. The S\H\D\N\ pin can be driven either by 5V logic or opencollector logic (See Datasheet)", 8 IN (power) "Input. Power is supplied to the device through the IN pin. A bypass capacitor is required on this pin if the device is more than six inches away from the main input filter capacitor. In general, the output impedance of a (See Datasheet)"
part B pins: 6 NC, 7 NC

## LT1962EMS8-2.5#TRPBF
designator U?
300 mA, Low Noise, Micropower LDO Regulator, 1.8 to 20 V Vin, 2.5 V Vout, 8-pin SOP (MS8-8), -40 to 125 degC, Pb-Free, Tape and Reel; Manufacturer: Linear Technology; PartNumber: LT1962EMS8-2.5#TRPBF; Discrete Pass Element: no; Dropout Voltage(V): 0.27; Iout(mA): 300; Isupply(mA): 0.03; Noise(uV): 20; Number of Outputs: 1; Output Voltage: 2.5 V; PSRR(dB): 65; Shutdown Current(uA): 0.1; Vin Min(V): 1.8; DatasheetVersion: Rev. A; PackageVersion: Rev. G, 03/2012; PackageReference: MS8-8; PackageDescription: 8-Pin Plastic MSOP, Body 3 x 3 mm, Pitch 0.65 mm; Supplier 1: Digi-Key; Supplier Part Number 1: LT1962EMS8-2.5#TRPBF-ND; Supplier 2: Newark; Supplier Part Number 2: 57M7391; Packing: Tape and Reel; RoHS: TRUE; Vin Max(V): 20; Mounting Technology: Surface Mount; ComponentLink1Description: Manufacturer URL; ComponentLink1URL: http://www.linear.com/; ComponentLink2Description: Datasheet; ComponentLink2URL: http://cds.linear.com/docs/en/datasheet/1962fas.pdf; ComponentLink3Description: Package Specification; ComponentLink3URL: http://cds.linear.com/docs/en/packaging/05081660_G_MS8.pdf
footprint LT-MS8-8_N (SOP, 8-Leads, Body 3x3mm, Pitch 0.65mm, IPC Medium Density)
footprint LT-MS8-8_L (SOP, 8-Leads, Body 3x3mm, Pitch 0.65mm, IPC High Density)
footprint LT-MS8-8_M (SOP, 8-Leads, Body 3x3mm, Pitch 0.65mm, IPC Low Density)
part A pins: 1 OUT (power) "Output. The output supplies power to the load.", 2 SENSE (in) "Sense. For fixed voltage versions, the SENSE pin is the input to the error amplifier. Optimum regulation will be obtained at the point where the SENSE pin is connected to the OUT pin of the regulator. In critical (See Datasheet)", 3 BYP "Bypass. The BYP pin is used to bypass the reference of the LT1762 regulators to achieve low noise performance from the regulator. The BYP pin is clamped internally to +/-0.6V (one VBE). A small capacitor from the output to (See Datasheet)", 4 GND (power) "Ground.", 5 ~{SHDN} (in) "Shutdown. The S\H\D\N\ pin is used to put the regulators into a low power shutdown state. The output will be off when the S\H\D\N\ pin is pulled low. The S\H\D\N\ pin can be driven either by 5V logic or opencollector logic (See Datasheet)", 8 IN (power) "Input. Power is supplied to the device through the IN pin. A bypass capacitor is required on this pin if the device is more than six inches away from the main input filter capacitor. In general, the output impedance of a (See Datasheet)"
part B pins: 6 NC, 7 NC

## LT1962EMS8-3
designator U?
300 mA, Low Noise, Micropower LDO Regulator, 1.8 to 20 V Vin, 3 V Vout, 8-pin SOP (MS8-8), -40 to 125 degC; Manufacturer: Linear Technology; PartNumber: LT1962EMS8-3; Discrete Pass Element: no; Dropout Voltage(V): 0.27; Iout(mA): 300; Isupply(mA): 0.03; Noise(uV): 20; Number of Outputs: 1; Output Voltage: 3 V; PSRR(dB): 65; Shutdown Current(uA): 0.1; Vin Min(V): 1.8; DatasheetVersion: Rev. A; PackageVersion: Rev. G, 03/2012; PackageReference: MS8-8; PackageDescription: 8-Pin Plastic MSOP, Body 3 x 3 mm, Pitch 0.65 mm; Supplier 1: Digi-Key; Supplier Part Number 1: LT1962EMS8-3-ND; RoHS: FALSE; Vin Max(V): 20; Mounting Technology: Surface Mount; ComponentLink1Description: Manufacturer URL; ComponentLink1URL: http://www.linear.com/; ComponentLink2Description: Datasheet; ComponentLink2URL: http://cds.linear.com/docs/en/datasheet/1962fas.pdf; ComponentLink3Description: Package Specification; ComponentLink3URL: http://cds.linear.com/docs/en/packaging/05081660_G_MS8.pdf
footprint LT-MS8-8_N (SOP, 8-Leads, Body 3x3mm, Pitch 0.65mm, IPC Medium Density)
footprint LT-MS8-8_L (SOP, 8-Leads, Body 3x3mm, Pitch 0.65mm, IPC High Density)
footprint LT-MS8-8_M (SOP, 8-Leads, Body 3x3mm, Pitch 0.65mm, IPC Low Density)
part A pins: 1 OUT (power) "Output. The output supplies power to the load.", 2 SENSE (in) "Sense. For fixed voltage versions, the SENSE pin is the input to the error amplifier. Optimum regulation will be obtained at the point where the SENSE pin is connected to the OUT pin of the regulator. In critical (See Datasheet)", 3 BYP "Bypass. The BYP pin is used to bypass the reference of the LT1762 regulators to achieve low noise performance from the regulator. The BYP pin is clamped internally to +/-0.6V (one VBE). A small capacitor from the output to (See Datasheet)", 4 GND (power) "Ground.", 5 ~{SHDN} (in) "Shutdown. The S\H\D\N\ pin is used to put the regulators into a low power shutdown state. The output will be off when the S\H\D\N\ pin is pulled low. The S\H\D\N\ pin can be driven either by 5V logic or opencollector logic (See Datasheet)", 8 IN (power) "Input. Power is supplied to the device through the IN pin. A bypass capacitor is required on this pin if the device is more than six inches away from the main input filter capacitor. In general, the output impedance of a (See Datasheet)"
part B pins: 6 NC, 7 NC

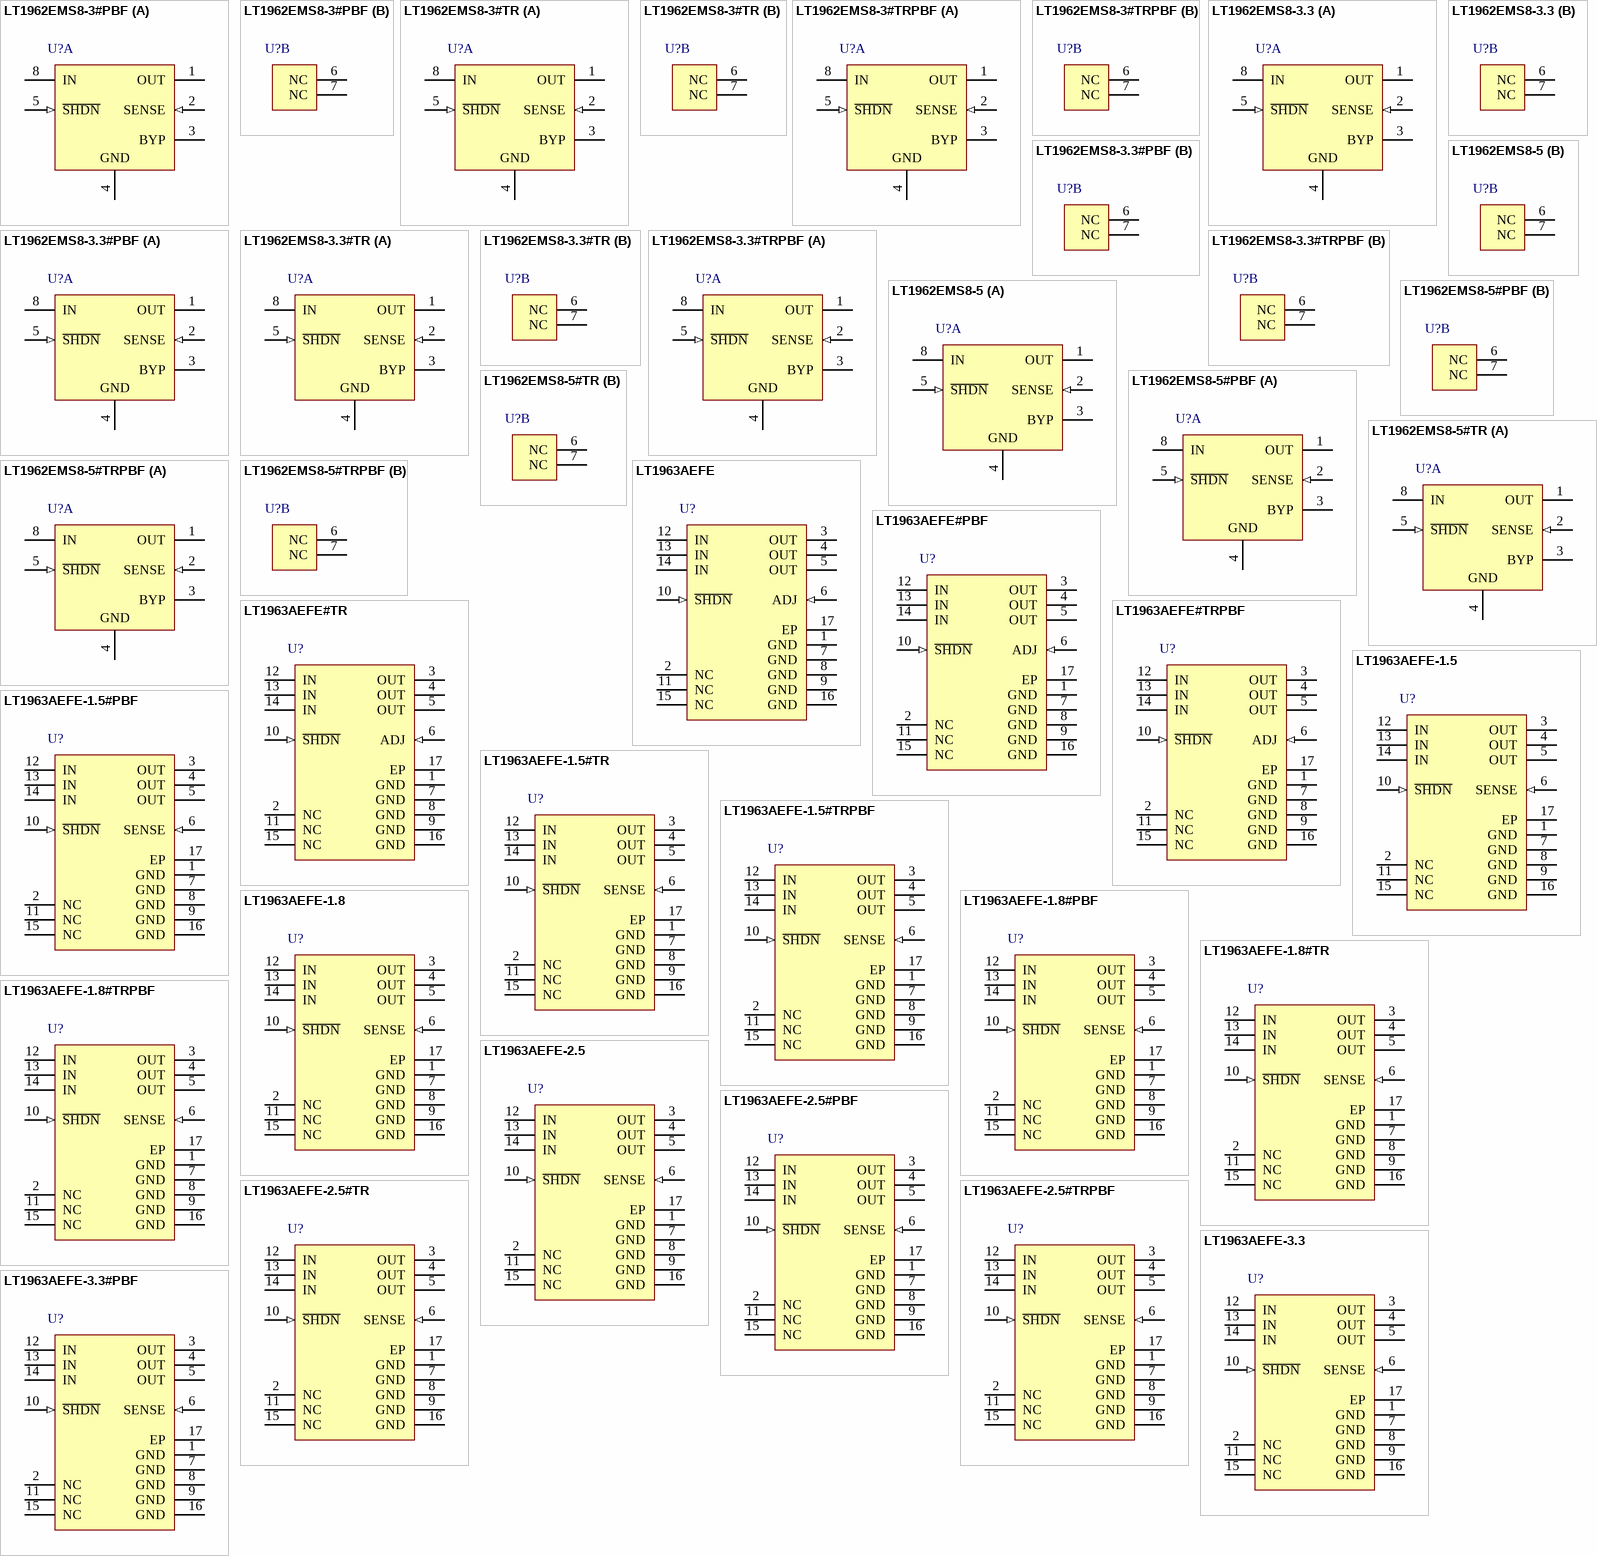
[diagram p31: symbols LT1962EMS8-3#PBF to LT1963AEFE-3.3#PBF]

## LT1962EMS8-3#PBF
designator U?
300 mA, Low Noise, Micropower LDO Regulator, 1.8 to 20 V Vin, 3 V Vout, 8-pin SOP (MS8-8), -40 to 125 degC, Pb-Free; Manufacturer: Linear Technology; PartNumber: LT1962EMS8-3#PBF; Discrete Pass Element: no; Dropout Voltage(V): 0.27; Iout(mA): 300; Isupply(mA): 0.03; Noise(uV): 20; Number of Outputs: 1; Output Voltage: 3 V; PSRR(dB): 65; Shutdown Current(uA): 0.1; Vin Min(V): 1.8; DatasheetVersion: Rev. A; PackageVersion: Rev. G, 03/2012; PackageReference: MS8-8; PackageDescription: 8-Pin Plastic MSOP, Body 3 x 3 mm, Pitch 0.65 mm; Supplier 1: Digi-Key; Supplier Part Number 1: LT1962EMS8-3#PBF-ND; Supplier 2: Farnell; Supplier Part Number 2: 1663520; Supplier 3: Newark; Supplier Part Number 3: 57M7397; RoHS: TRUE; Vin Max(V): 20; Mounting Technology: Surface Mount; ComponentLink1Description: Manufacturer URL; ComponentLink1URL: http://www.linear.com/; ComponentLink2Description: Datasheet; ComponentLink2URL: http://cds.linear.com/docs/en/datasheet/1962fas.pdf; ComponentLink3Description: Package Specification; ComponentLink3URL: http://cds.linear.com/docs/en/packaging/05081660_G_MS8.pdf
footprint LT-MS8-8_N (SOP, 8-Leads, Body 3x3mm, Pitch 0.65mm, IPC Medium Density)
footprint LT-MS8-8_L (SOP, 8-Leads, Body 3x3mm, Pitch 0.65mm, IPC High Density)
footprint LT-MS8-8_M (SOP, 8-Leads, Body 3x3mm, Pitch 0.65mm, IPC Low Density)
part A pins: 1 OUT (power) "Output. The output supplies power to the load.", 2 SENSE (in) "Sense. For fixed voltage versions, the SENSE pin is the input to the error amplifier. Optimum regulation will be obtained at the point where the SENSE pin is connected to the OUT pin of the regulator. In critical (See Datasheet)", 3 BYP "Bypass. The BYP pin is used to bypass the reference of the LT1762 regulators to achieve low noise performance from the regulator. The BYP pin is clamped internally to +/-0.6V (one VBE). A small capacitor from the output to (See Datasheet)", 4 GND (power) "Ground.", 5 ~{SHDN} (in) "Shutdown. The S\H\D\N\ pin is used to put the regulators into a low power shutdown state. The output will be off when the S\H\D\N\ pin is pulled low. The S\H\D\N\ pin can be driven either by 5V logic or opencollector logic (See Datasheet)", 8 IN (power) "Input. Power is supplied to the device through the IN pin. A bypass capacitor is required on this pin if the device is more than six inches away from the main input filter capacitor. In general, the output impedance of a (See Datasheet)"
part B pins: 6 NC, 7 NC

## LT1962EMS8-3#TR
designator U?
300 mA, Low Noise, Micropower LDO Regulator, 1.8 to 20 V Vin, 3 V Vout, 8-pin SOP (MS8-8), -40 to 125 degC, Tape and Reel; Manufacturer: Linear Technology; PartNumber: LT1962EMS8-3#TR; Discrete Pass Element: no; Dropout Voltage(V): 0.27; Iout(mA): 300; Isupply(mA): 0.03; Noise(uV): 20; Number of Outputs: 1; Output Voltage: 3 V; PSRR(dB): 65; Shutdown Current(uA): 0.1; Vin Min(V): 1.8; DatasheetVersion: Rev. A; PackageVersion: Rev. G, 03/2012; PackageReference: MS8-8; PackageDescription: 8-Pin Plastic MSOP, Body 3 x 3 mm, Pitch 0.65 mm; Supplier 1: Digi-Key; Supplier Part Number 1: LT1962EMS8-3TR-ND; Supplier 2: Newark; Supplier Part Number 2: 57M7398; Packing: Tape and Reel; RoHS: FALSE; Vin Max(V): 20; Mounting Technology: Surface Mount; ComponentLink1Description: Manufacturer URL; ComponentLink1URL: http://www.linear.com/; ComponentLink2Description: Datasheet; ComponentLink2URL: http://cds.linear.com/docs/en/datasheet/1962fas.pdf; ComponentLink3Description: Package Specification; ComponentLink3URL: http://cds.linear.com/docs/en/packaging/05081660_G_MS8.pdf
footprint LT-MS8-8_N (SOP, 8-Leads, Body 3x3mm, Pitch 0.65mm, IPC Medium Density)
footprint LT-MS8-8_L (SOP, 8-Leads, Body 3x3mm, Pitch 0.65mm, IPC High Density)
footprint LT-MS8-8_M (SOP, 8-Leads, Body 3x3mm, Pitch 0.65mm, IPC Low Density)
part A pins: 1 OUT (power) "Output. The output supplies power to the load.", 2 SENSE (in) "Sense. For fixed voltage versions, the SENSE pin is the input to the error amplifier. Optimum regulation will be obtained at the point where the SENSE pin is connected to the OUT pin of the regulator. In critical (See Datasheet)", 3 BYP "Bypass. The BYP pin is used to bypass the reference of the LT1762 regulators to achieve low noise performance from the regulator. The BYP pin is clamped internally to +/-0.6V (one VBE). A small capacitor from the output to (See Datasheet)", 4 GND (power) "Ground.", 5 ~{SHDN} (in) "Shutdown. The S\H\D\N\ pin is used to put the regulators into a low power shutdown state. The output will be off when the S\H\D\N\ pin is pulled low. The S\H\D\N\ pin can be driven either by 5V logic or opencollector logic (See Datasheet)", 8 IN (power) "Input. Power is supplied to the device through the IN pin. A bypass capacitor is required on this pin if the device is more than six inches away from the main input filter capacitor. In general, the output impedance of a (See Datasheet)"
part B pins: 6 NC, 7 NC